# EAGLE library part PCM2707C (library My_TI)
PCM270xC Stereo Audio DAC With USB Interface, Single-Ended Headphone Output and S/PDIF Output Fully Compliant With USB 2.0 Specification Sampling Rates: 32 kHz, 44.1 kHz, and 48 kHz On-Chip Clock Generator With Single 12-MHz Clock Source 16-Bit Delta-Sigma Stereo DAC Datasheet <http://www.ti.com/lit/ds/symlink/pcm2707c.pdf>
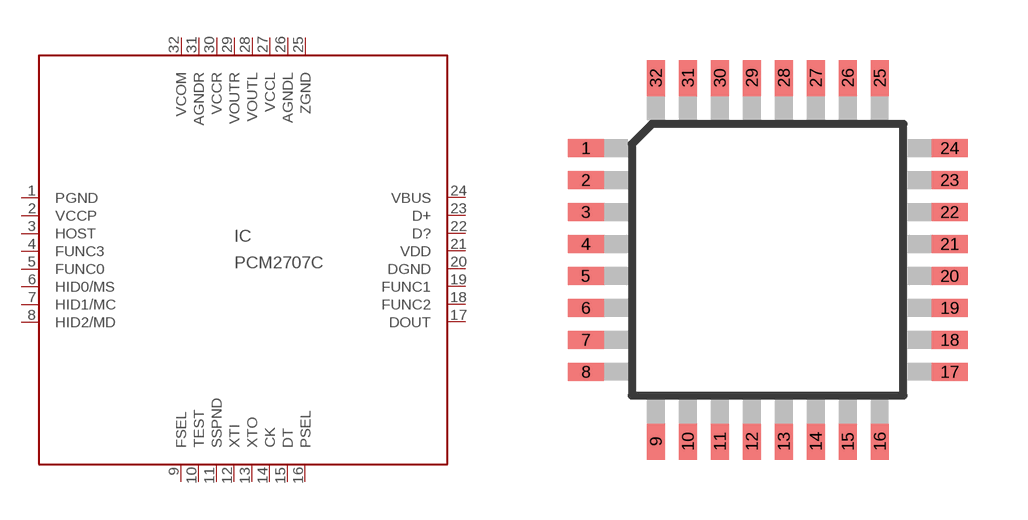
[diagram p24: symbol with the pads of PQFP32; footprint PQFP32]

Designator prefix IC

## PCM2707C  [PQFP32]
1  PGND  pwr
2  VCCP  pwr
3  HOST  in
4  FUNC3  in
5  FUNC0
6  HID0/MS  in
7  HID1/MC  in
8  HID2/MD  in
9  FSEL  in
10  TEST  in
11  SSPND  out
12  XTI  in
13  XTO  out
14  CK  out
15  DT
16  PSEL  in
17  DOUT  out
18  FUNC2
19  FUNC1
20  DGND  pwr
21  VDD  pwr
22  D?
23  D+
24  VBUS  pwr
25  ZGND  pwr
26  AGNDL
27  VCCL  pwr
28  VOUTL  out
29  VOUTR  out
30  VCCR  pwr
31  AGNDR
32  VCOM

## Footprint PQFP32 (pad centres in mm)
PQFP32 Auto generated by make-symbol-device-package-bsdl.ulp Rev. 44
smd 0.9 x 0.45: 1 -4.55,2.8; 2 -4.55,2; 3 -4.55,1.2; 4 -4.55,0.4; 5 -4.55,-0.4; 6 -4.55,-1.2; 7 -4.55,-2; 8 -4.55,-2.8; 17 4.55,-2.8; 18 4.55,-2; 19 4.55,-1.2; 20 4.55,-0.4; 21 4.55,0.4; 22 4.55,1.2; 23 4.55,2; 24 4.55,2.8
smd 0.45 x 0.9: 9 -2.8,-4.55; 10 -2,-4.55; 11 -1.2,-4.55; 12 -0.4,-4.55; 13 0.4,-4.55; 14 1.2,-4.55; 15 2,-4.55; 16 2.8,-4.55; 25 2.8,4.55; 26 2,4.55; 27 1.2,4.55; 28 0.4,4.55; 29 -0.4,4.55; 30 -1.2,4.55; 31 -2,4.55; 32 -2.8,4.55